# EAGLE library part EXPANSION_PORT_CC40 (library ti-cc40-74-95)
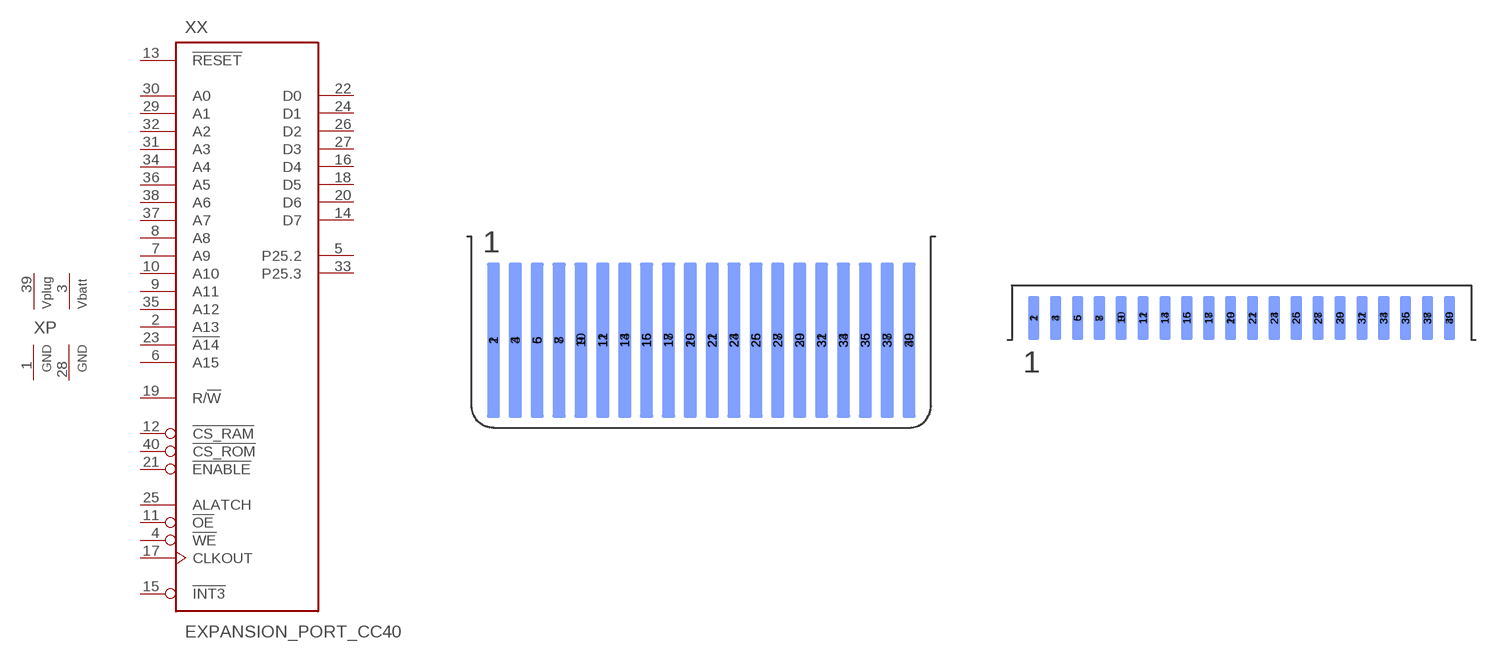
[diagram p0: symbol with the pads of MA20-2(.050); footprints MA20-2(.050), FE20-2(.050)SHORT]

Designator prefix X; gates X=EXPANSION_PORT_CC40 P=2PWR2GND

## EXPANSION_PORT_CC40  [MA20-2(.050)]
1  P:GND  pwr
2  X:A13  out
3  P:VBATT  pwr
4  X:!WE  out
5  X:P25.2
6  X:A15  out
7  X:A9  out
8  X:A8  out
9  X:A11  out
10  X:A10  pas
11  X:!OE  out
12  X:!CS_RAM  out
13  X:!RESET  oc
14  X:D7
15  X:!INT3  oc
16  X:D4
17  X:CLKOUT  out
18  X:D5
19  X:R/!W  out
20  X:D6
21  X:!ENABLE  out
22  X:D0
23  X:!A14  out
24  X:D1
25  X:ALATCH  out
26  X:D2
27  X:D3
28  P:GND  pwr
29  X:A1  out
30  X:A0  out
31  X:A3  out
32  X:A2  out
33  X:P25.3
34  X:A4  out
35  X:A12  out
36  X:A5  out
37  X:A7  out
38  X:A6  out
39  P:VPLUG  pwr
40  X:!CS_ROM  out

## EXPANSION_PORT_CC40C  [FE20-2(.050)SHORT]
Pads as for MA20-2(.050)

## Footprint MA20-2(.050) (pad centres in mm)
smd 0.762 x 9: 1 -12.065,0; 3 -10.795,0; 5 -9.525,0; 7 -8.255,0; 9 -6.985,0; 11 -5.715,0; 13 -4.445,0; 15 -3.175,0; 17 -1.905,0; 19 -0.635,0; 21 0.635,0; 23 1.905,0; 25 3.175,0; 27 4.445,0; 29 5.715,0; 31 6.985,0; 33 8.255,0; 35 9.525,0; 37 10.795,0; 39 12.065,0
smd 0.762 x 9 bottom: 2 -12.065,0; 4 -10.795,0; 6 -9.525,0; 8 -8.255,0; 10 -6.985,0; 12 -5.715,0; 14 -4.445,0; 16 -3.175,0; 18 -1.905,0; 20 -0.635,0; 22 0.635,0; 24 1.905,0; 26 3.175,0; 28 4.445,0; 30 5.715,0; 32 6.985,0; 34 8.255,0; 36 9.525,0; 38 10.795,0; 40 12.065,0

## Footprint FE20-2(.050)SHORT (pad centres in mm)
smd 0.635 x 2.54: 1 -12.065,0; 3 -10.795,0; 5 -9.525,0; 7 -8.255,0; 9 -6.985,0; 11 -5.715,0; 13 -4.445,0; 15 -3.175,0; 17 -1.905,0; 19 -0.635,0; 21 0.635,0; 23 1.905,0; 25 3.175,0; 27 4.445,0; 29 5.715,0; 31 6.985,0; 33 8.255,0; 35 9.525,0; 37 10.795,0; 39 12.065,0
smd 0.635 x 2.54 bottom: 2 -12.065,0; 4 -10.795,0; 6 -9.525,0; 8 -8.255,0; 10 -6.985,0; 12 -5.715,0; 14 -4.445,0; 16 -3.175,0; 18 -1.905,0; 20 -0.635,0; 22 0.635,0; 24 1.905,0; 26 3.175,0; 28 4.445,0; 30 5.715,0; 32 6.985,0; 34 8.255,0; 36 9.525,0; 38 10.795,0; 40 12.065,0